# Altium footprint library MyLibrary.PcbLib: 365 footprints (part 19 of 23)
Each footprint in its own frame and in the unit in brackets; x right, y up, seen from the top. Pads: shape width x height; smd on the part's side, far side on the other; paste and mask are expansions set on the pad; w line width, h text height; cw(c..) or ccw(c..) is an arc to the next point about the centre after c.
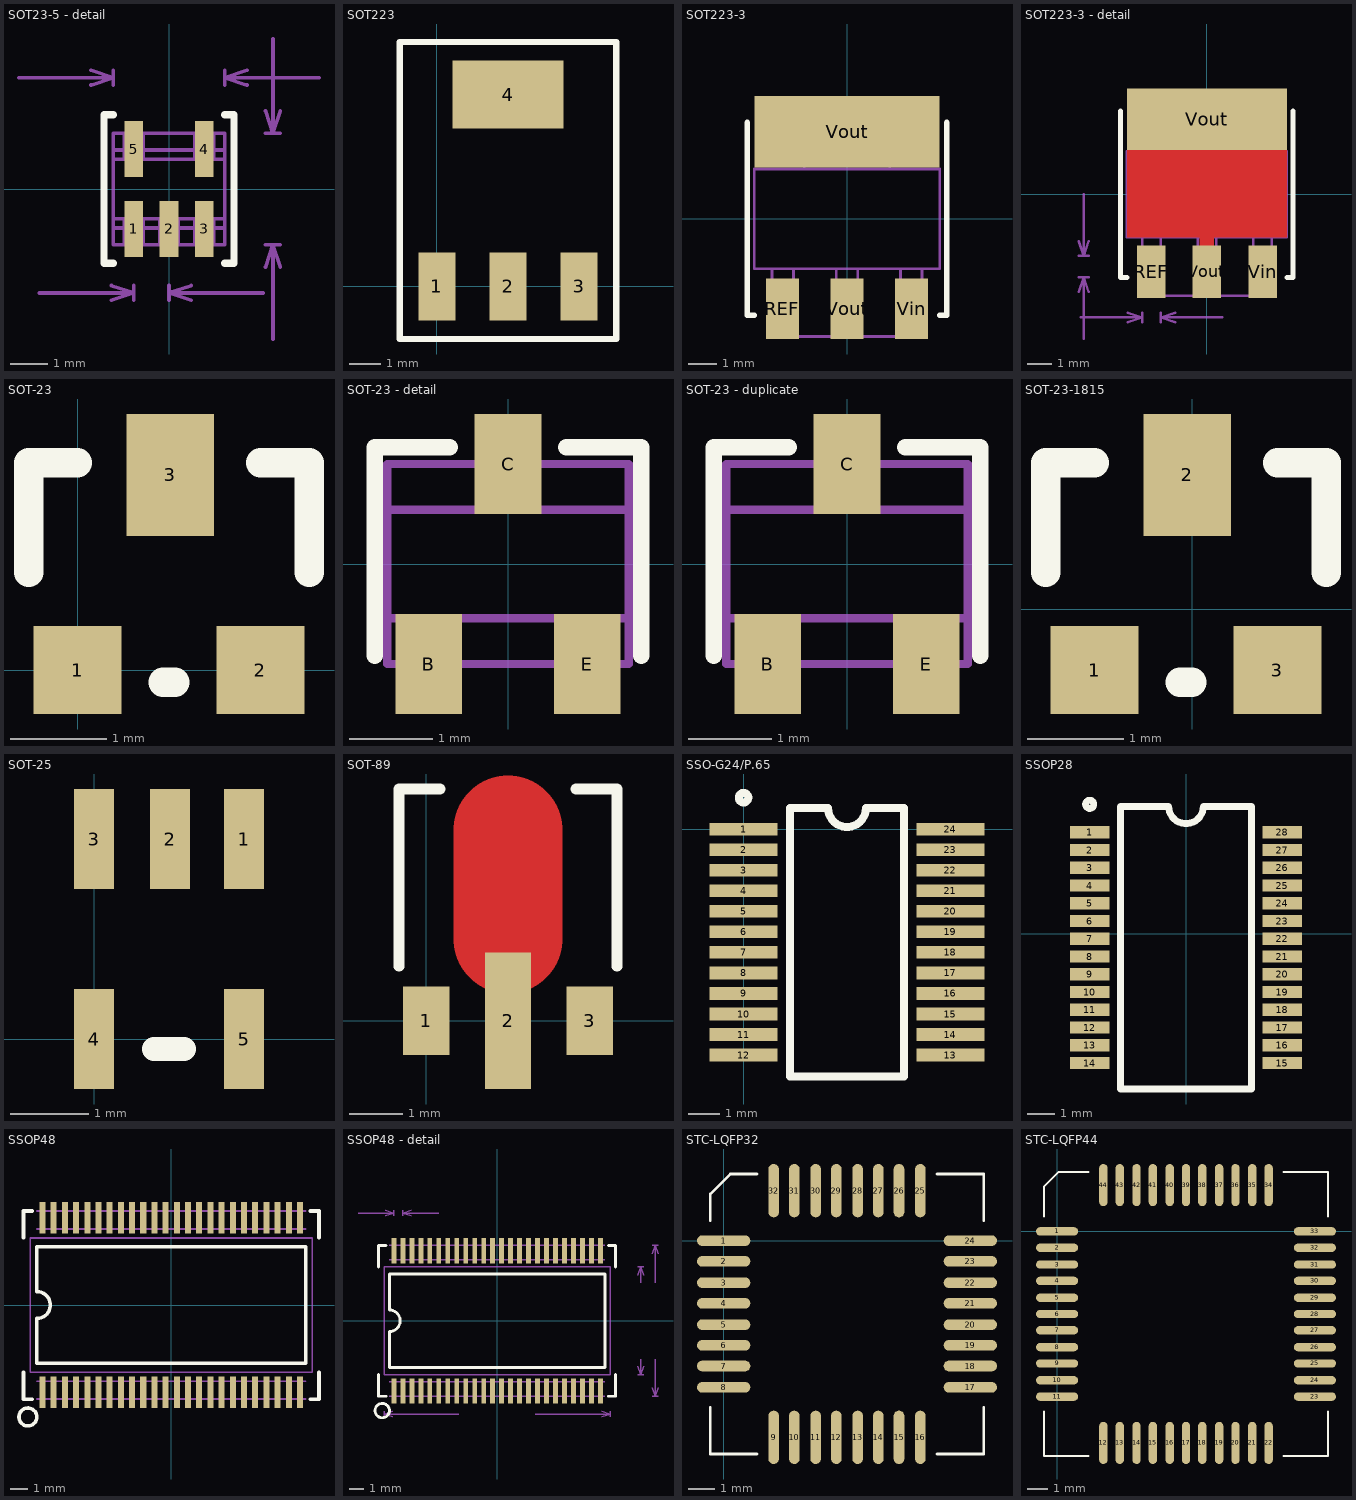
[diagram p18: the footprints below, top view; thin cyan lines are the x and y axes]

## SOT23-5 - detail [mm]
pads (5):
  rect 0.5x1.5 smd: 1(-0.95,-1.075) 2(0,-1.075) 3(0.95,-1.075) 4(0.95,1.075) 5(-0.95,1.075)
Top Overlay:
  lines w0.2: -1.5,-2 -1.75,-2 -1.75,2 -1.5,2 ; 1.5,-2 1.75,-2 1.75,2 1.5,2
Mechanical 1:
  lines w0.1: -4.04,3 -1.5,3 ; -3.49,-2.8 -0.95,-2.8 ; -2.1,2.8 -1.5,3 ; -2.1,3.2 -1.5,3 ; -1.55,-3 -0.95,-2.8 ; -1.55,-2.6 -0.95,-2.8 ; -1.5,-1.05 1.5,-1.05 ; -1.5,-0.8 1.5,-0.8 ; -1.5,0.8 1.5,0.8 ; -1.5,1.05 1.5,1.05 ; -1.5,2.8 -1.5,3.2 ; -1.2,-1.5 -1.2,-0.8 ; -1.2,0.8 -1.2,1.5 ; -0.95,-3 -0.95,-2.6 ; -0.7,-1.5 -0.7,-0.8 ; -0.7,0.8 -0.7,1.5 ; -0.25,-1.5 -0.25,-0.8 ; 0,-3 0,-2.6 ; 0.25,-1.5 0.25,-0.8 ; 0.6,-3 0,-2.8 ; 0.6,-2.6 0,-2.8 ; 0.7,-1.5 0.7,-0.8 ; 0.7,0.8 0.7,1.5 ; 1.2,-1.5 1.2,-0.8 ; 1.2,0.8 1.2,1.5 ; 1.5,2.8 1.5,3.2 ; 2.1,2.8 1.5,3 ; 2.1,3.2 1.5,3 ; 2.54,-2.8 0,-2.8 ; 2.6,-2.1 2.8,-1.5 ; 2.6,-1.5 3,-1.5 ; 2.6,1.5 3,1.5 ; 2.6,2.1 2.8,1.5 ; 2.8,-4.04 2.8,-1.5 ; 2.8,4.04 2.8,1.5 ; 3,-2.1 2.8,-1.5 ; 3,2.1 2.8,1.5 ; 4.04,3 1.5,3 ; -1.5,-1.5 1.5,-1.5 1.5,1.5 -1.5,1.5 -1.5,-1.5
  text "0.95 (mm)" at -8.5,-3.15 h0.6
  text "3 (mm)" at 3.7,-1.55 h0.6
  text "3 (mm)" at -1.6,3.25 h0.6

## SOT223 [mm]
pads (4):
  rect 1.2x2.2 smd: 1(0,0) 2(2.3,0) 3(4.6,0)
  rect 3.6x2.2 smd: 4(2.3,6.2)
Top Overlay:
  lines w0.2: -1.2,-1.7 -1.2,7.9 5.8,7.9 5.8,-1.7 -1.2,-1.7

## SOT223-3 [mil]
pads (4):
  rect 46x85 smd: REF(-90.55,-125.98) Vin(90.55,-125.98) Vout(0,-125.98)
  rect 260x100 smd: Vout(0,122.05)
Top Overlay:
  lines w7.87: -140,135 -140,-135 -130,-135 ; 130,-135 140,-135 140,135
Mechanical 1:
  lines w3.94: -105,-165 105,-165 ; -105,-100 -75,-100 ; -105,-70 -105,-135 -75,-135 -75,-70 ; -60,70 -60,135 60,135 60,70 ; -60,100 60,100 ; -60,165 60,165 ; -15,-100 15,-100 ; -15,-70 -15,-135 15,-135 15,-70 ; 75,-100 105,-100 ; 75,-70 75,-135 105,-135 105,-70 ; -130,-70 130,-70 130,70 -130,70 -130,-70

## SOT223-3 - detail [mil]
pads (4):
  rect 46x85 smd: REF(-90.55,-125.98) Vin(90.55,-125.98) Vout(0,-125.98)
  rect 260x100 smd: Vout(0,122.05)
Top Layer:
  rectangle: -11.81,-94.49 11.81,-62.99
  rectangle: -129.92,-70 130,74.8
Top Overlay:
  lines w7.87: -140,135 -140,-135 -130,-135 ; 130,-135 140,-135 140,135
Mechanical 1:
  lines w3.94: -207.87,-158.62 -200,-135 ; -207.87,-135 -192.13,-135 ; -207.87,-100 -192.13,-100 ; -207.87,-76.38 -200,-100 ; -205,-200 -105,-200 ; -200,-235 -200,-135 ; -200,0 -200,-100 ; -192.13,-158.62 -200,-135 ; -192.13,-76.38 -200,-100 ; -128.62,-207.87 -105,-200 ; -128.62,-192.13 -105,-200 ; -105,-207.87 -105,-192.13 ; -105,-165 105,-165 ; -105,-100 -75,-100 ; -105,-70 -105,-135 -75,-135 -75,-70 ; -75,-207.87 -75,-192.13 ; -60,70 -60,135 60,135 60,70 ; -60,100 60,100 ; -60,165 60,165 ; -51.38,-207.87 -75,-200 ; -51.38,-192.13 -75,-200 ; -15,-100 15,-100 ; -15,-70 -15,-135 15,-135 15,-70 ; 25,-200 -75,-200 ; 75,-100 105,-100 ; 75,-70 75,-135 105,-135 105,-70 ; -130,-70 -130,70 130,70 130,-70 -130,-70
  text "35 (mil)" at -225,-200 h23.62
  text "30 (mil)" at -170,-245 h23.62

## SOT-23 [mil]
pads (3):
  rect 36x36 smd: 1(0,0) 2(75,0)
  rect 36x50 smd: 3(38,80)
Top Overlay:
  lines w12: -20,40 -20,85 0,85 ; 35,-5 40,-5 ; 75,85 95,85 95,40

## SOT-23 - detail [mm]
pads (3):
  rect 0.8x1.2 smd: B(-0.95,-1.2) C(0,1.2) E(0.95,-1.2)
Top Overlay:
  lines w0.2: -1.6,-1.1 -1.6,1.4 -0.7,1.4 ; 0.7,1.4 1.6,1.4 1.6,-1.1
Mechanical 1:
  lines w0.1: -1.45,-0.65 1.45,-0.65 ; -1.45,0.65 1.45,0.65 ; -1.15,-1.2 -1.15,-0.65 ; -0.75,-1.2 -0.75,-0.65 ; -0.2,0.65 -0.2,1.2 ; 0.2,0.65 0.2,1.2 ; 0.75,-1.2 0.75,-0.65 ; 1.15,-1.2 1.15,-0.65 ; -1.45,-1.2 -1.45,1.2 1.45,1.2 1.45,-1.2 -1.45,-1.2

## SOT-23 - duplicate [mm]
pads (3):
  rect 0.8x1.2 smd: B(-0.95,-1.2) C(0,1.2) E(0.95,-1.2)
Top Overlay:
  lines w0.2: -1.6,-1.1 -1.6,1.4 -0.7,1.4 ; 0.7,1.4 1.6,1.4 1.6,-1.1
Mechanical 1:
  lines w0.1: -1.45,-0.65 1.45,-0.65 ; -1.45,0.65 1.45,0.65 ; -1.15,-1.2 -1.15,-0.65 ; -0.75,-1.2 -0.75,-0.65 ; -0.2,0.65 -0.2,1.2 ; 0.2,0.65 0.2,1.2 ; 0.75,-1.2 0.75,-0.65 ; 1.15,-1.2 1.15,-0.65 ; -1.45,-1.2 -1.45,1.2 1.45,1.2 1.45,-1.2 -1.45,-1.2

## SOT-23-1815 [mil]
pads (3):
  rect 36x36 smd: 1(-40,-25) 3(35,-25)
  rect 36x50 smd: 2(-2,55)
Top Overlay:
  lines w12: -60,15 -60,60 -40,60 ; -5,-30 0,-30 ; 35,60 55,60 55,15

## SOT-25 [mil]
pads (5):
  rect 20x50 smd: 1(75,100) 2(38,100) 3(0,100) 4(0,0) 5(75,0)
Top Overlay:
  lines w12: 30,-5 45,-5

## SOT-89 [mil]
pads (3):
  rect 34x50 smd: 1(0,0) 3(120,0)
  rect 34x100 smd: 2(60,0)
Top Layer:
  lines w80: 60,60 60,140
Top Overlay:
  lines w8: -20,40 -20,170 10,170 ; 110,170 140,170 140,40

## SSO-G24/P.65 [mm]
pads (24):
  rect 2.15x0.4 smd: 1(0,0) 2(0,-0.65) 3(0,-1.3) 4(0,-1.95) 5(0,-2.6) 6(0,-3.25) 7(0,-3.9) 8(0,-4.55) 9(0,-5.2) 10(0,-5.85) 11(0,-6.5) 12(0,-7.15) 13(6.55,-7.15) 14(6.55,-6.5) 15(6.55,-5.85) 16(6.55,-5.2) 17(6.55,-4.55) 18(6.55,-3.9) 19(6.55,-3.25) 20(6.55,-2.6) 21(6.55,-1.95) 22(6.55,-1.3) 23(6.55,-0.65) 24(6.55,0)
Top Overlay:
  circle w0.25: c0,1 r0.15
  lines w0.25: 3.875,0.675 cw(c3.275,0.675) 2.675,0.675 1.475,0.675 1.475,-7.825 5.075,-7.825 5.075,0.675 3.875,0.675

## SSOP28 [mm]
pads (28):
  rect 1.45x0.45 smd: 1(-3.525,3.717) 2(-3.525,3.067) 3(-3.525,2.417) 4(-3.525,1.767) 5(-3.525,1.117) 6(-3.525,0.467) 7(-3.525,-0.183) 8(-3.525,-0.833) 9(-3.525,-1.483) 10(-3.525,-2.133) 11(-3.525,-2.783) 12(-3.525,-3.433) 13(-3.525,-4.083) 14(-3.525,-4.733) 15(3.525,-4.733) 16(3.525,-4.083) 17(3.525,-3.433) 18(3.525,-2.783) 19(3.525,-2.133) 20(3.525,-1.483) 21(3.525,-0.833) 22(3.525,-0.183) 23(3.525,0.467) 24(3.525,1.117) 25(3.525,1.767) 26(3.525,2.417) 27(3.525,3.067) 28(3.525,3.717)
Top Overlay:
  circle w0.25: c-3.525,4.742 r0.15
  lines w0.25: -2.4,-5.683 -2.4,4.667 -0.635,4.667 ccw(c0,4.667) 0.635,4.667 2.4,4.667 2.4,-5.683 -2.4,-5.683

## SSOP48 [mil]
pads (48):
  rect 13.5x70 smd: 1(-287.5,-195) 2(-262.5,-195) 3(-237.5,-195) 4(-212.5,-195) 5(-187.5,-195) 6(-162.5,-195) 7(-137.5,-195) 8(-112.5,-195) 9(-87.5,-195) 10(-62.5,-195) 11(-37.5,-195) 12(-12.5,-195) 13(12.5,-195) 14(37.5,-195) 15(62.5,-195) 16(87.5,-195) 17(112.5,-195) 18(137.5,-195) 19(162.5,-195) 20(187.5,-195) 21(212.5,-195) 22(237.5,-195) 23(262.5,-195) 24(287.5,-195) 25(287.5,195) 26(262.5,195) 27(237.5,195) 28(212.5,195) 29(187.5,195) 30(162.5,195) 31(137.5,195) 32(112.5,195) 33(87.5,195) 34(62.5,195) 35(37.5,195) 36(12.5,195) 37(-12.5,195) 38(-37.5,195) 39(-62.5,195) 40(-87.5,195) 41(-112.5,195) 42(-137.5,195) 43(-162.5,195) 44(-187.5,195) 45(-212.5,195) 46(-237.5,195) 47(-262.5,195) 48(-287.5,195)
Top Overlay:
  circle w8: c-320,-250 r20
  lines w8: -330,-150 -330,-210 -310,-210 ; -330,150 -330,210 -310,210 ; 310,-210 330,-210 330,-150 ; 310,210 330,210 330,150 ; -300,-130 -300,-30 ccw(c-300,0) -300,30 -300,130 300,130 300,-130 -300,-130
Mechanical 1:
  lines w4: -300,-210 300,-210 ; -300,-170 300,-170 ; -300,170 300,170 ; -300,210 300,210 ; -315,-150 315,-150 315,150 -315,150 -315,-150

## SSOP48 - detail [mil]
pads (48):
  rect 13.5x70 smd: 1(-287.5,-195) 2(-262.5,-195) 3(-237.5,-195) 4(-212.5,-195) 5(-187.5,-195) 6(-162.5,-195) 7(-137.5,-195) 8(-112.5,-195) 9(-87.5,-195) 10(-62.5,-195) 11(-37.5,-195) 12(-12.5,-195) 13(12.5,-195) 14(37.5,-195) 15(62.5,-195) 16(87.5,-195) 17(112.5,-195) 18(137.5,-195) 19(162.5,-195) 20(187.5,-195) 21(212.5,-195) 22(237.5,-195) 23(262.5,-195) 24(287.5,-195) 25(287.5,195) 26(262.5,195) 27(237.5,195) 28(212.5,195) 29(187.5,195) 30(162.5,195) 31(137.5,195) 32(112.5,195) 33(87.5,195) 34(62.5,195) 35(37.5,195) 36(12.5,195) 37(-12.5,195) 38(-37.5,195) 39(-62.5,195) 40(-87.5,195) 41(-112.5,195) 42(-137.5,195) 43(-162.5,195) 44(-187.5,195) 45(-212.5,195) 46(-237.5,195) 47(-262.5,195) 48(-287.5,195)
Top Overlay:
  circle w8: c-320,-250 r20
  lines w8: -330,-150 -330,-210 -310,-210 ; -330,150 -330,210 -310,210 ; 310,-210 330,-210 330,-150 ; 310,210 330,210 330,150 ; -300,-130 -300,-30 ccw(c-300,0) -300,30 -300,130 300,130 300,-130 -300,-130
Mechanical 1:
  lines w3.94: -387.5,300 -287.5,300 ; -315,-267.87 -315,-252.13 ; -311.12,292.13 -287.5,300 ; -311.12,307.87 -287.5,300 ; -291.38,-267.87 -315,-260 ; -291.38,-252.13 -315,-260 ; -287.5,292.13 -287.5,307.87 ; -262.5,292.13 -262.5,307.87 ; -238.88,292.13 -262.5,300 ; -238.88,307.87 -262.5,300 ; -162.5,300 -262.5,300 ; -106.43,-260 -315,-260 ; 106.43,-260 315,-260 ; 291.38,-267.87 315,-260 ; 291.38,-252.13 315,-260 ; 315,-267.87 315,-252.13 ; 392.13,-150 407.87,-150 ; 392.13,-126.38 400,-150 ; 392.13,126.38 400,150 ; 392.13,150 407.87,150 ; 400,-106.43 400,-150 ; 400,106.43 400,150 ; 407.87,-126.38 400,-150 ; 407.87,126.38 400,150 ; 432.13,-210 447.87,-210 ; 432.13,-186.38 440,-210 ; 432.13,186.38 440,210 ; 432.13,210 447.87,210 ; 440,-106.43 440,-210 ; 440,106.43 440,210 ; 447.87,-186.38 440,-210 ; 447.87,186.38 440,210
  lines w4: -300,-210 300,-210 ; -300,-170 300,-170 ; -300,170 300,170 ; -300,210 300,210 ; -315,-150 315,-150 315,150 -315,150 -315,-150
  text "420 (mil)" at 455.74,-96.43 h23.62
  text "300 (mil)" at 415.74,-96.43 h23.62
  text "630 (mil)" at -96.43,-275.74 h23.62
  text "25 (mil)" at -355,320 h23.62

## STC-LQFP32 [mil]
pads (32):
  oval 80x16 smd: 1(0,0) 2(0,-31) 3(0,-63) 4(0,-94) 5(0,-126) 6(0,-157) 7(0,-188) 8(0,-220) 17(370,-220) 18(370,-188) 19(370,-157) 20(370,-126) 21(370,-94) 22(370,-63) 23(370,-31) 24(370,0)
  oval 16x80 smd: 9(75,-295) 10(106,-295) 11(138,-295) 12(169,-295) 13(201,-295) 14(232,-295) 15(263,-295) 16(295,-295) 25(295,75) 26(263,75) 27(232,75) 28(201,75) 29(169,75) 30(138,75) 31(106,75) 32(75,75)
Top Overlay:
  lines w4: -20,-250 -20,-320 50,-320 ; -20,30 -20,70 10,100 50,100 ; 320,-320 390,-320 390,-250 ; 320,100 390,100 390,30

## STC-LQFP44 [mil]
pads (44):
  oval 80x16 smd: 1(0,0) 2(0,-31) 3(0,-63) 4(0,-94) 5(0,-126) 6(0,-157) 7(0,-188) 8(0,-220) 9(0,-251) 10(0,-283) 11(0,-314) 23(490,-314) 24(490,-283) 25(490,-251) 26(490,-220) 27(490,-188) 28(490,-157) 29(490,-126) 30(490,-94) 31(490,-63) 32(490,-31) 33(490,0)
  oval 16x80 smd: 12(88,-402) 13(119,-402) 14(151,-402) 15(182,-402) 16(214,-402) 17(245,-402) 18(276,-402) 19(308,-402) 20(339,-402) 21(371,-402) 22(402,-402) 34(402,88) 35(371,88) 36(339,88) 37(308,88) 38(276,88) 39(245,88) 40(214,88) 41(182,88) 42(151,88) 43(119,88) 44(88,88)
Top Overlay:
  lines w4: -25,-342 -25,-427 60,-427 ; -25,28 -25,85 3,113 60,113 ; 430,-427 515,-427 515,-342 ; 430,113 515,113 515,28